# Altium integrated library TI_Logic_Specialty_Logic.IntLib: 2504 symbols (part 44 of 81)
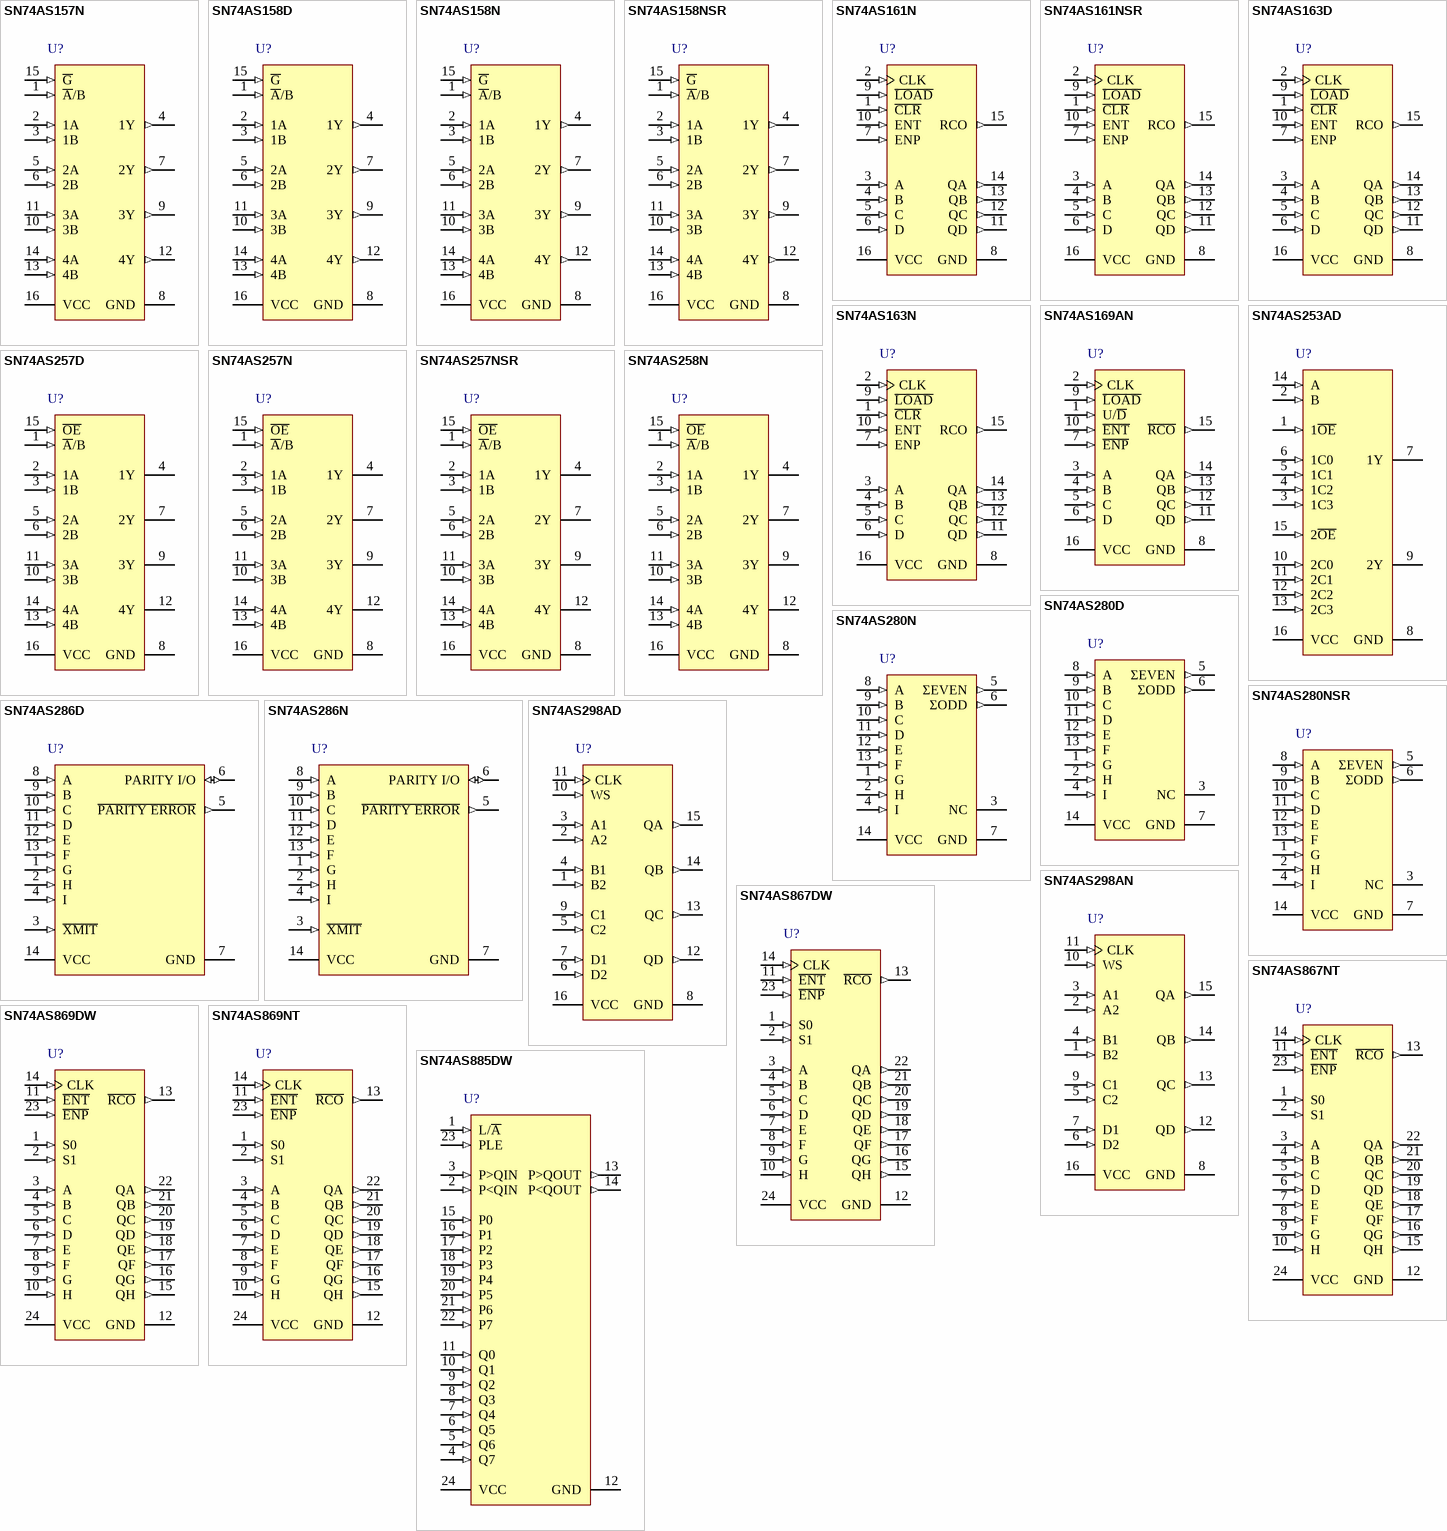
[diagram p147: symbols SN74AS157N to SN74AS885DW]

## SN74AS280N
designator U?
9-Bit Parity Generators/Checkers, N0014A, TUBE; Generic Part Number: SN74AS280; Manufacturer: Texas Instruments; PartNumber: SN74AS280N; VCC(Min)(V): 4.5; VCC(Max)(V): 5.5; Output Type: CMOS; Inputs: 9; ICC @ Nom Voltage(Max)(mA): 35; Input Type: TTL; Bits(#): 2; F @ Nom Voltage(Max)(Mhz): 125; Rating: Catalog; Technology Family: AS; Voltage(Nom)(V): 5; Schmitt Trigger: No; Output Drive (IOL/IOH)(Max)(mA): 20/-2; tpd @ Nom Voltage(Max)(ns): 12; DatasheetVersion: SDAS038C; PackageReference: N0014A; Supplier 1: Mouser; Supplier Part Number 1: 595-SN74AS280N; Supplier 2: Digi-Key; Supplier Part Number 2: 296-33808-5-ND; Function: Parity; Operating Temperature Range(C): 0 to 70; Type: Other; Code_JEDEC: MS-001; ComponentLink1Description: Manufacturer URL; ComponentLink1URL: http://www.ti.com/; ComponentLink2Description: Datasheet; ComponentLink2URL: http://www.ti.com/lit/ds/symlink/sn74as280.pdf; ComponentLink3Description: Package Specification; ComponentLink3URL: http://www.ti.com/lit/ml/mpdi002c/mpdi002c.pdf
footprint N0014A (DIP, 14-Leads, Body 19.7x6.6mm, Pitch 2.54mm)
pins: 1 G (in), 2 H (in), 3 NC, 4 I (in), 5 ΣEVEN (out), 6 ΣODD (out), 7 GND (power), 8 A (in), 9 B (in), 10 C (in), 11 D (in), 12 E (in), 13 F (in), 14 VCC (power)

## SN74AS280NSR
designator U?
9-Bit Parity Generators/Checkers, NS0014A, LARGE T&R; Generic Part Number: SN74AS280; Manufacturer: Texas Instruments; PartNumber: SN74AS280NSR; VCC(Min)(V): 4.5; VCC(Max)(V): 5.5; Output Type: CMOS; Inputs: 9; ICC @ Nom Voltage(Max)(mA): 35; Input Type: TTL; Bits(#): 2; F @ Nom Voltage(Max)(Mhz): 125; Rating: Catalog; Technology Family: AS; Voltage(Nom)(V): 5; Schmitt Trigger: No; Output Drive (IOL/IOH)(Max)(mA): 20/-2; tpd @ Nom Voltage(Max)(ns): 12; DatasheetVersion: SDAS038C; PackageReference: NS0014A; Supplier 1: Mouser; Supplier Part Number 1: 595-SN74AS280NSR; Supplier 2: Digi-Key; Supplier Part Number 2: 296-28708-2-ND; Supplier 3: Digi-Key; Supplier Part Number 3: 296-28708-1-ND; Supplier 4: Digi-Key; Supplier Part Number 4: 296-28708-6-ND; Function: Parity; Operating Temperature Range(C): 0 to 70; Type: Other; ComponentLink1Description: Manufacturer URL; ComponentLink1URL: http://www.ti.com/; ComponentLink2Description: Datasheet; ComponentLink2URL: http://www.ti.com/lit/ds/symlink/sn74as280.pdf; ComponentLink3Description: Package Specification; ComponentLink3URL: http://www.ti.com/lit/ml/msop002a/msop002a.pdf
footprint NS0014A_N (SOIC,14-Leads,Body 10.5x5.6mm,Pitch 1.27mm,IPC Medium Density)
footprint NS0014A_M (SOIC,14-Leads,Body 10.5x5.6mm,Pitch 1.27mm,IPC Low Density)
footprint NS0014A_L (SOIC,14-Leads,Body 10.5x5.6mm,Pitch 0.4mm,IPC High Density)
pins: 1 G (in), 2 H (in), 3 NC, 4 I (in), 5 ΣEVEN (out), 6 ΣODD (out), 7 GND (power), 8 A (in), 9 B (in), 10 C (in), 11 D (in), 12 E (in), 13 F (in), 14 VCC (power)

## SN74AS286D
designator U?
9-Bit Parity Generators/Checkers With Bus-Driver Parity I/O Ports, D0014A, TUBE; Generic Part Number: SN74AS286; Manufacturer: Texas Instruments; PartNumber: SN74AS286D; VCC(Min)(V): 4.5; VCC(Max)(V): 5.5; Output Type: CMOS; Inputs: 9; ICC @ Nom Voltage(Max)(mA): 50; Input Type: TTL; Bits(#): 1; F @ Nom Voltage(Max)(Mhz): 125; Rating: Catalog; Technology Family: AS; Voltage(Nom)(V): 5; Schmitt Trigger: No; Output Drive (IOL/IOH)(Max)(mA): 48/-15; tpd @ Nom Voltage(Max)(ns): 16.5; DatasheetVersion: SDAS050B; PackageReference: D0014A; Supplier 1: Mouser; Supplier Part Number 1: 595-SN74AS286D; Supplier 2: Digi-Key; Supplier Part Number 2: SN74AS286D-ND; Function: Parity; Operating Temperature Range(C): 0 to 70; Type: Other; Code_JEDEC: MS-012; ComponentLink1Description: Manufacturer URL; ComponentLink1URL: http://www.ti.com/; ComponentLink2Description: Datasheet; ComponentLink2URL: http://www.ti.com/lit/ds/symlink/sn74as286.pdf; ComponentLink3Description: Package Specification; ComponentLink3URL: http://www.ti.com/lit/ml/mpds177g/mpds177g.pdf
footprint D0014A_N (SOIC, 14-Leads, Body 8.75x4mm, Pitch 1.27mm, IPC Medium Density)
footprint D0014A_M (SOIC, 14-Leads, Body 8.75x4mm, Pitch 1.27mm, IPC Low Density)
footprint D0014A_L (SOIC, 14-Leads, Body 8.75x4mm, Pitch 1.27mm, IPC High Density)
pins: 1 G (in), 2 H (in), 3 ~{XMIT} (in), 4 I (in), 5 ~{PARITY ERROR} (out), 6 PARITY I/O (io), 7 GND (power), 8 A (in), 9 B (in), 10 C (in), 11 D (in), 12 E (in), 13 F (in), 14 VCC (power)

## SN74AS286N
designator U?
9-Bit Parity Generators/Checkers With Bus-Driver Parity I/O Ports, N0014A, TUBE; Generic Part Number: SN74AS286; Manufacturer: Texas Instruments; PartNumber: SN74AS286N; VCC(Min)(V): 4.5; VCC(Max)(V): 5.5; Output Type: CMOS; Inputs: 9; ICC @ Nom Voltage(Max)(mA): 50; Input Type: TTL; Bits(#): 1; F @ Nom Voltage(Max)(Mhz): 125; Rating: Catalog; Technology Family: AS; Voltage(Nom)(V): 5; Schmitt Trigger: No; Output Drive (IOL/IOH)(Max)(mA): 48/-15; tpd @ Nom Voltage(Max)(ns): 16.5; DatasheetVersion: SDAS050B; PackageReference: N0014A; Supplier 1: Mouser; Supplier Part Number 1: 595-SN74AS286N; Supplier 2: Digi-Key; Supplier Part Number 2: 296-6352-5-ND; Function: Parity; Operating Temperature Range(C): 0 to 70; Type: Other; Code_JEDEC: MS-001; ComponentLink1Description: Manufacturer URL; ComponentLink1URL: http://www.ti.com/; ComponentLink2Description: Datasheet; ComponentLink2URL: http://www.ti.com/lit/ds/symlink/sn74as286.pdf; ComponentLink3Description: Package Specification; ComponentLink3URL: http://www.ti.com/lit/ml/mpdi002c/mpdi002c.pdf
footprint N0014A (DIP, 14-Leads, Body 19.7x6.6mm, Pitch 2.54mm)
pins: 1 G (in), 2 H (in), 3 ~{XMIT} (in), 4 I (in), 5 ~{PARITY ERROR} (out), 6 PARITY I/O (io), 7 GND (power), 8 A (in), 9 B (in), 10 C (in), 11 D (in), 12 E (in), 13 F (in), 14 VCC (power)

## SN74AS298AD
designator U?
Quadruple 2-Input Multiplexers With Storage, D0016A, TUBE; Generic Part Number: SN74AS298A; Manufacturer: Texas Instruments; PartNumber: SN74AS298AD; VCC(Min)(V): 4.5; VCC(Max)(V): 5.5; Output Type: TTL; Function: Encoder/Multiplexer; ICC @ Nom Voltage(Max)(mA): 36; Bits(#): 2; F @ Nom Voltage(Max)(Mhz): 125; Configuration: 2：1; Channels(#): 4; Rating: Catalog; Technology Family: AS; Voltage(Nom)(V): 5; Schmitt Trigger: No; Output Drive (IOL/IOH)(Max)(mA): 20/-2; tpd @ Nom Voltage(Max)(ns): 11; DatasheetVersion: SDAS219B; PackageReference: D0016A; Supplier 1: Mouser; Supplier Part Number 1: 595-SN74AS298AD; Supplier 2: Digi-Key; Supplier Part Number 2: SN74AS298AD-ND; Input Type: TTL; Operating Temperature Range(C): 0 to 70; Type: Standard; Code_JEDEC: MS-012 variation AC; ComponentLink1Description: Manufacturer URL; ComponentLink1URL: http://www.ti.com/; ComponentLink2Description: Datasheet; ComponentLink2URL: http://www.ti.com/lit/ds/symlink/sn74as298a.pdf; ComponentLink3Description: Package Specification; ComponentLink3URL: http://www.ti.com/lit/ml/mpds178g/mpds178g.pdf
footprint D0016A_N (SOIC, 16-Leads, Body 10x4mm, Pitch 1.27mm, IPC Medium Density)
footprint D0016A_M (SOIC, 16-Leads, Body 10x4mm, Pitch 1.27mm, IPC Low Density)
footprint D0016A_L (SOIC, 16-Leads, Body 10x4mm, Pitch 1.27mm, IPC High Density)
pins: 1 B2 (in), 2 A2 (in), 3 A1 (in), 4 B1 (in), 5 C2 (in), 6 D2 (in), 7 D1 (in), 8 GND (power), 9 C1 (in), 10 WS (in), 11 CLK (in), 12 QD (out), 13 QC (out), 14 QB (out), 15 QA (out), 16 VCC (power)

## SN74AS298AN
designator U?
Quadruple 2-Input Multiplexers With Storage, N0016A, TUBE; Generic Part Number: SN74AS298A; Manufacturer: Texas Instruments; PartNumber: SN74AS298AN; VCC(Min)(V): 4.5; VCC(Max)(V): 5.5; Output Type: TTL; Function: Encoder/Multiplexer; ICC @ Nom Voltage(Max)(mA): 36; Bits(#): 2; F @ Nom Voltage(Max)(Mhz): 125; Configuration: 2：1; Channels(#): 4; Rating: Catalog; Technology Family: AS; Voltage(Nom)(V): 5; Schmitt Trigger: No; Output Drive (IOL/IOH)(Max)(mA): 20/-2; tpd @ Nom Voltage(Max)(ns): 11; DatasheetVersion: SDAS219B; PackageReference: N0016A; Supplier 1: Mouser; Supplier Part Number 1: 595-SN74AS298AN; Supplier 2: Digi-Key; Supplier Part Number 2: 296-33809-5-ND; Input Type: TTL; Operating Temperature Range(C): 0 to 70; Type: Standard; Code_JEDEC: MS-001; ComponentLink1Description: Manufacturer URL; ComponentLink1URL: http://www.ti.com/; ComponentLink2Description: Datasheet; ComponentLink2URL: http://www.ti.com/lit/ds/symlink/sn74as298a.pdf; ComponentLink3Description: Package Specification; ComponentLink3URL: http://www.ti.com/lit/ml/mpdi002c/mpdi002c.pdf
footprint N0016A (DIP, 16-Leads, Body 19.7x6.6mm, Pitch 2.54mm)
pins: 1 B2 (in), 2 A2 (in), 3 A1 (in), 4 B1 (in), 5 C2 (in), 6 D2 (in), 7 D1 (in), 8 GND (power), 9 C1 (in), 10 WS (in), 11 CLK (in), 12 QD (out), 13 QC (out), 14 QB (out), 15 QA (out), 16 VCC (power)

## SN74AS867DW
designator U?
Synchronous 8-Bit Up/Down Counters, DW0024A, TUBE; Generic Part Number: SN74AS867; Manufacturer: Texas Instruments; PartNumber: SN74AS867DW; VCC(Min)(V): 4.5; VCC(Max)(V): 5.5; Output Type: CMOS; Inputs: 1; ICC @ Nom Voltage(Max)(mA): 195; Input Type: TTL; Bits(#): 8; F @ Nom Voltage(Max)(Mhz): 125; Rating: Catalog; Technology Family: AS; Voltage(Nom)(V): 5; Schmitt Trigger: No; Output Drive (IOL/IOH)(Max)(mA): 20/-2; tpd @ Nom Voltage(Max)(ns): 22; DatasheetVersion: SDAS115C; PackageReference: DW0024A; Supplier 1: Mouser; Supplier Part Number 1: 595-SN74AS867DW; Supplier 2: Digi-Key; Supplier Part Number 2: 296-6379-5-ND; Function: Counter; Operating Temperature Range(C): 0 to 70; Type: Binary; Code_JEDEC: MS-013; ComponentLink1Description: Manufacturer URL; ComponentLink1URL: http://www.ti.com/; ComponentLink2Description: Datasheet; ComponentLink2URL: http://www.ti.com/lit/ds/symlink/sn74as867.pdf; ComponentLink3Description: Package Specification; ComponentLink3URL: http://www.ti.com/lit/ml/mpds174a/mpds174a.pdf
footprint DW0024A_N (SOIC, 24-Leads, Body 15.6x7.6mm, Pitch 1.27mm, IPC Medium Density)
footprint DW0024A_M (SOIC, 24-Leads, Body 15.6x7.6mm, Pitch 1.27mm, IPC Low Density)
footprint DW0024A_L (SOIC, 24-Leads, Body 15.6x7.6mm, Pitch 1.27mm, IPC High Density)
pins: 1 S0 (in), 2 S1 (in), 3 A (in), 4 B (in), 5 C (in), 6 D (in), 7 E (in), 8 F (in), 9 G (in), 10 H (in), 11 ~{ENT} (in), 12 GND (power), 13 ~{RCO} (out), 14 CLK (in), 15 QH (out), 16 QG (out), 17 QF (out), 18 QE (out), 19 QD (out), 20 QC (out), 21 QB (out), 22 QA (out), 23 ~{ENP} (in), 24 VCC (power)

## SN74AS867NT
designator U?
Synchronous 8-Bit Up/Down Counters, NT0024A, TUBE; Generic Part Number: SN74AS867; Manufacturer: Texas Instruments; PartNumber: SN74AS867NT; VCC(Min)(V): 4.5; VCC(Max)(V): 5.5; Output Type: CMOS; Inputs: 1; ICC @ Nom Voltage(Max)(mA): 195; Input Type: TTL; Bits(#): 8; F @ Nom Voltage(Max)(Mhz): 125; Rating: Catalog; Technology Family: AS; Voltage(Nom)(V): 5; Schmitt Trigger: No; Output Drive (IOL/IOH)(Max)(mA): 20/-2; tpd @ Nom Voltage(Max)(ns): 22; DatasheetVersion: SDAS115C; PackageReference: NT0024A; Supplier 1: Mouser; Supplier Part Number 1: 595-SN74AS867NT; Supplier 2: Digi-Key; Supplier Part Number 2: 296-6380-5-ND; Function: Counter; Operating Temperature Range(C): 0 to 70; Type: Binary; ComponentLink1Description: Manufacturer URL; ComponentLink1URL: http://www.ti.com/; ComponentLink2Description: Datasheet; ComponentLink2URL: http://www.ti.com/lit/ds/symlink/sn74as867.pdf; ComponentLink3Description: Package Specification; ComponentLink3URL: http://www.ti.com/lit/ml/mpdi004a/mpdi004a.pdf
footprint NT0024A (DIP, 24-Leads, Body 32.05x7.1mm, Pitch 2.54mm)
pins: 1 S0 (in), 2 S1 (in), 3 A (in), 4 B (in), 5 C (in), 6 D (in), 7 E (in), 8 F (in), 9 G (in), 10 H (in), 11 ~{ENT} (in), 12 GND (power), 13 ~{RCO} (out), 14 CLK (in), 15 QH (out), 16 QG (out), 17 QF (out), 18 QE (out), 19 QD (out), 20 QC (out), 21 QB (out), 22 QA (out), 23 ~{ENP} (in), 24 VCC (power)

## SN74AS869DW
designator U?
Synchronous 8-Bit Up/Down Counters, DW0024A, TUBE; Generic Part Number: SN74AS869; Manufacturer: Texas Instruments; PartNumber: SN74AS869DW; VCC(Min)(V): 4.5; VCC(Max)(V): 5.5; Output Type: CMOS; Inputs: 1; ICC @ Nom Voltage(Max)(mA): 195; Input Type: TTL; Bits(#): 8; F @ Nom Voltage(Max)(Mhz): 125; Rating: Catalog; Technology Family: AS; Voltage(Nom)(V): 5; Schmitt Trigger: No; Output Drive (IOL/IOH)(Max)(mA): 20/-2; tpd @ Nom Voltage(Max)(ns): 35; DatasheetVersion: SDAS115C; PackageReference: DW0024A; Supplier 1: Mouser; Supplier Part Number 1: 595-SN74AS869DW; Supplier 2: Digi-Key; Supplier Part Number 2: SN74AS869DW-ND; Function: Counter; Operating Temperature Range(C): 0 to 70; Type: Binary; Code_JEDEC: MS-013; ComponentLink1Description: Manufacturer URL; ComponentLink1URL: http://www.ti.com/; ComponentLink2Description: Datasheet; ComponentLink2URL: http://www.ti.com/lit/ds/symlink/sn74as869.pdf; ComponentLink3Description: Package Specification; ComponentLink3URL: http://www.ti.com/lit/ml/mpds174a/mpds174a.pdf
footprint DW0024A_N (SOIC, 24-Leads, Body 15.6x7.6mm, Pitch 1.27mm, IPC Medium Density)
footprint DW0024A_M (SOIC, 24-Leads, Body 15.6x7.6mm, Pitch 1.27mm, IPC Low Density)
footprint DW0024A_L (SOIC, 24-Leads, Body 15.6x7.6mm, Pitch 1.27mm, IPC High Density)
pins: 1 S0 (in), 2 S1 (in), 3 A (in), 4 B (in), 5 C (in), 6 D (in), 7 E (in), 8 F (in), 9 G (in), 10 H (in), 11 ~{ENT} (in), 12 GND (power), 13 ~{RCO} (out), 14 CLK (in), 15 QH (out), 16 QG (out), 17 QF (out), 18 QE (out), 19 QD (out), 20 QC (out), 21 QB (out), 22 QA (out), 23 ~{ENP} (in), 24 VCC (power)

## SN74AS869NT
designator U?
Synchronous 8-Bit Up/Down Counters, NT0024A, TUBE; Generic Part Number: SN74AS869; Manufacturer: Texas Instruments; PartNumber: SN74AS869NT; VCC(Min)(V): 4.5; VCC(Max)(V): 5.5; Output Type: CMOS; Inputs: 1; ICC @ Nom Voltage(Max)(mA): 195; Input Type: TTL; Bits(#): 8; F @ Nom Voltage(Max)(Mhz): 125; Rating: Catalog; Technology Family: AS; Voltage(Nom)(V): 5; Schmitt Trigger: No; Output Drive (IOL/IOH)(Max)(mA): 20/-2; tpd @ Nom Voltage(Max)(ns): 35; DatasheetVersion: SDAS115C; PackageReference: NT0024A; Supplier 1: Mouser; Supplier Part Number 1: 595-SN74AS869NT; Supplier 2: Digi-Key; Supplier Part Number 2: 296-33822-5-ND; Function: Counter; Operating Temperature Range(C): 0 to 70; Type: Binary; ComponentLink1Description: Manufacturer URL; ComponentLink1URL: http://www.ti.com/; ComponentLink2Description: Datasheet; ComponentLink2URL: http://www.ti.com/lit/ds/symlink/sn74as869.pdf; ComponentLink3Description: Package Specification; ComponentLink3URL: http://www.ti.com/lit/ml/mpdi004a/mpdi004a.pdf
footprint NT0024A (DIP, 24-Leads, Body 32.05x7.1mm, Pitch 2.54mm)
pins: 1 S0 (in), 2 S1 (in), 3 A (in), 4 B (in), 5 C (in), 6 D (in), 7 E (in), 8 F (in), 9 G (in), 10 H (in), 11 ~{ENT} (in), 12 GND (power), 13 ~{RCO} (out), 14 CLK (in), 15 QH (out), 16 QG (out), 17 QF (out), 18 QE (out), 19 QD (out), 20 QC (out), 21 QB (out), 22 QA (out), 23 ~{ENP} (in), 24 VCC (power)

## SN74AS885DW
designator U?
Octal Magnitude Comparators, DW0024A, TUBE; Generic Part Number: SN74AS885; Manufacturer: Texas Instruments; PartNumber: SN74AS885DW; VCC(Min)(V): 4.5; VCC(Max)(V): 5.5; Output Type: TTL; ICC @ Nom Voltage(Max)(mA): 210; Bits(#): 8; F @ Nom Voltage(Max)(Mhz): 35; Rating: Catalog; Technology Family: AS; Voltage(Nom)(V): 5; Schmitt Trigger: No; Output Drive (IOL/IOH)(Max)(mA): 20/-2; tpd @ Nom Voltage(Max)(ns): 17.5; DatasheetVersion: SDAS236A; PackageReference: DW0024A; Supplier 1: Mouser; Supplier Part Number 1: 595-SN74AS885DW; Supplier 2: Digi-Key; Supplier Part Number 2: 296-6382-5-ND; Input Type: TTL; Operating Temperature Range(C): 0 to 70; ComponentLink1Description: Manufacturer URL; ComponentLink1URL: http://www.ti.com/; ComponentLink2Description: Datasheet; ComponentLink2URL: http://www.ti.com/lit/ds/symlink/sn74as885.pdf
footprint DW0024A_N (SOIC, 24-Leads, Body 15.6x7.6mm, Pitch 1.27mm, IPC Medium Density)
footprint DW0024A_M (SOIC, 24-Leads, Body 15.6x7.6mm, Pitch 1.27mm, IPC Low Density)
footprint DW0024A_L (SOIC, 24-Leads, Body 15.6x7.6mm, Pitch 1.27mm, IPC High Density)
pins: 1 L/~{A} (in), 2 P<QIN (in), 3 P>QIN (in), 4 Q7 (in), 5 Q6 (in), 6 Q5 (in), 7 Q4 (in), 8 Q3 (in), 9 Q2 (in), 10 Q1 (in), 11 Q0 (in), 12 GND (power), 13 P>QOUT (out), 14 P<QOUT (out), 15 P0 (in), 16 P1 (in), 17 P2 (in), 18 P3 (in), 19 P4 (in), 20 P5 (in), 21 P6 (in), 22 P7 (in), 23 PLE (in), 24 VCC (power)

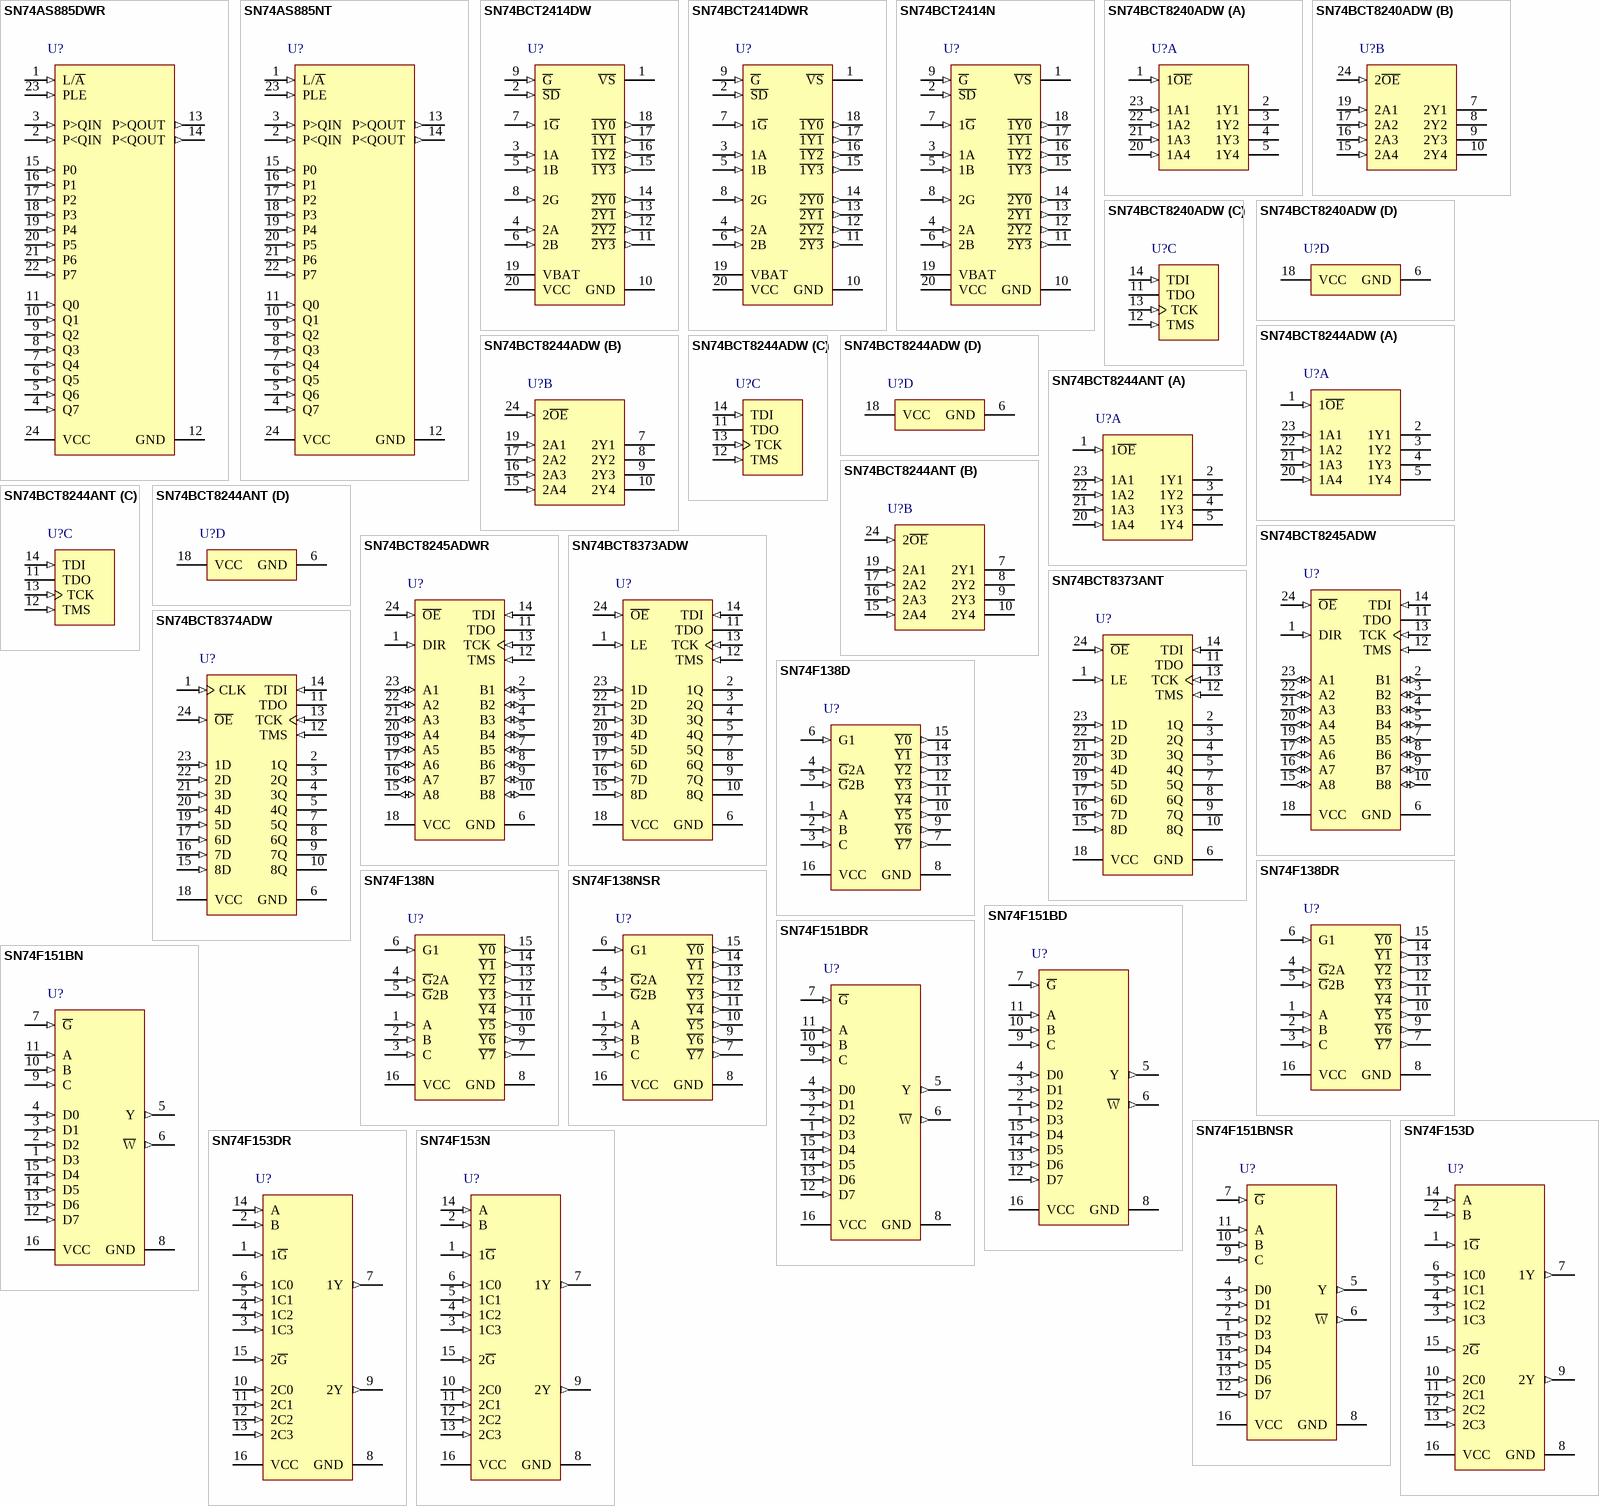
[diagram p57: symbols SN74AS885DWR to SN74F153N]

## SN74AS885DWR
designator U?
Octal Magnitude Comparators, DW0024A, LARGE T&R; Generic Part Number: SN74AS885; Manufacturer: Texas Instruments; PartNumber: SN74AS885DWR; VCC(Min)(V): 4.5; VCC(Max)(V): 5.5; Output Type: TTL; ICC @ Nom Voltage(Max)(mA): 210; Bits(#): 8; F @ Nom Voltage(Max)(Mhz): 35; Rating: Catalog; Technology Family: AS; Voltage(Nom)(V): 5; Schmitt Trigger: No; Output Drive (IOL/IOH)(Max)(mA): 20/-2; tpd @ Nom Voltage(Max)(ns): 17.5; DatasheetVersion: SDAS236A; PackageReference: DW0024A; Supplier 1: Mouser; Supplier Part Number 1: 595-SN74AS885DWR; Supplier 2: Digi-Key; Supplier Part Number 2: 296-6383-2-ND; Input Type: TTL; Operating Temperature Range(C): 0 to 70; ComponentLink1Description: Manufacturer URL; ComponentLink1URL: http://www.ti.com/; ComponentLink2Description: Datasheet; ComponentLink2URL: http://www.ti.com/lit/ds/symlink/sn74as885.pdf
footprint DW0024A_N (SOIC, 24-Leads, Body 15.6x7.6mm, Pitch 1.27mm, IPC Medium Density)
footprint DW0024A_M (SOIC, 24-Leads, Body 15.6x7.6mm, Pitch 1.27mm, IPC Low Density)
footprint DW0024A_L (SOIC, 24-Leads, Body 15.6x7.6mm, Pitch 1.27mm, IPC High Density)
pins: 1 L/~{A} (in), 2 P<QIN (in), 3 P>QIN (in), 4 Q7 (in), 5 Q6 (in), 6 Q5 (in), 7 Q4 (in), 8 Q3 (in), 9 Q2 (in), 10 Q1 (in), 11 Q0 (in), 12 GND (power), 13 P>QOUT (out), 14 P<QOUT (out), 15 P0 (in), 16 P1 (in), 17 P2 (in), 18 P3 (in), 19 P4 (in), 20 P5 (in), 21 P6 (in), 22 P7 (in), 23 PLE (in), 24 VCC (power)

## SN74AS885NT
designator U?
Octal Magnitude Comparators, NT0024A, TUBE; Generic Part Number: SN74AS885; Manufacturer: Texas Instruments; PartNumber: SN74AS885NT; VCC(Min)(V): 4.5; VCC(Max)(V): 5.5; Output Type: TTL; ICC @ Nom Voltage(Max)(mA): 210; Bits(#): 8; F @ Nom Voltage(Max)(Mhz): 35; Rating: Catalog; Technology Family: AS; Voltage(Nom)(V): 5; Schmitt Trigger: No; Output Drive (IOL/IOH)(Max)(mA): 20/-2; tpd @ Nom Voltage(Max)(ns): 17.5; DatasheetVersion: SDAS236A; PackageReference: NT0024A; Supplier 1: Mouser; Supplier Part Number 1: 595-SN74AS885NT; Supplier 2: Digi-Key; Supplier Part Number 2: 296-6384-5-ND; Input Type: TTL; Operating Temperature Range(C): 0 to 70; ComponentLink1Description: Manufacturer URL; ComponentLink1URL: http://www.ti.com/; ComponentLink2Description: Datasheet; ComponentLink2URL: http://www.ti.com/lit/ds/symlink/sn74as885.pdf
footprint NT0024A (DIP, 24-Leads, Body 32.05x7.1mm, Pitch 2.54mm)
pins: 1 L/~{A} (in), 2 P<QIN (in), 3 P>QIN (in), 4 Q7 (in), 5 Q6 (in), 6 Q5 (in), 7 Q4 (in), 8 Q3 (in), 9 Q2 (in), 10 Q1 (in), 11 Q0 (in), 12 GND (power), 13 P>QOUT (out), 14 P<QOUT (out), 15 P0 (in), 16 P1 (in), 17 P2 (in), 18 P3 (in), 19 P4 (in), 20 P5 (in), 21 P6 (in), 22 P7 (in), 23 PLE (in), 24 VCC (power)

## SN74BCT2414DW
designator U?
Dual 2-Line To 4-Line Memory Decoder With On-Chip Supply Voltage Monitor, DW0020A, TUBE; Generic Part Number: SN74BCT2414; Manufacturer: Texas Instruments; PartNumber: SN74BCT2414DW; VCC(Min)(V): 4.5; VCC(Max)(V): 5.5; Output Type: TTL; Function: Decoder/Demultiplexer; ICC @ Nom Voltage(Max)(mA): 3; Bits(#): 4; F @ Nom Voltage(Max)(Mhz): 70; Configuration: 2：4; Channels(#): 2; Rating: Catalog; Technology Family: BCT; Voltage(Nom)(V): 5; Schmitt Trigger: No; Output Drive (IOL/IOH)(Max)(mA): 20/-0.4; tpd @ Nom Voltage(Max)(ns): 12; DatasheetVersion: SCBS059B; PackageReference: DW0020A; Supplier 1: Mouser; Supplier Part Number 1: 595-SN74BCT2414DW; Supplier 2: Digi-Key; Supplier Part Number 2: 296-13176-5-ND; Input Type: TTL; Operating Temperature Range(C): 0 to 70; Type: Standard; Code_JEDEC: MS-013; ComponentLink1Description: Manufacturer URL; ComponentLink1URL: http://www.ti.com/; ComponentLink2Description: Datasheet; ComponentLink2URL: http://www.ti.com/lit/ds/symlink/sn74bct2414.pdf; ComponentLink3Description: Package Specification; ComponentLink3URL: http://www.ti.com/lit/ml/mpds173a/mpds173a.pdf
footprint DW0020A_N (SOIC, 20-Leads, Body 13x7.6mm, Pitch 1.27mm, IPC Medium Density)
footprint DW0020A_M (SOIC, 20-Leads, Body 13x7.6mm, Pitch 1.27mm, IPC Low Density)
footprint DW0020A_L (SOIC, 20-Leads, Body 13x7.6mm, Pitch 1.27mm, IPC High Density)
pins: 1 ~{VS} (oc), 2 ~{SD} (in), 3 1A (in), 4 2A (in), 5 1B (in), 6 2B (in), 7 1~{G} (in), 8 2G (in), 9 ~{G} (in), 10 GND (power), 11 ~{2Y3} (out), 12 ~{2Y2} (out), 13 ~{2Y1} (out), 14 ~{2Y0} (out), 15 ~{1Y3} (out), 16 ~{1Y2} (out), 17 ~{1Y1} (out), 18 ~{1Y0} (out), 19 VBAT (power), 20 VCC (power)

## SN74BCT2414DWR
designator U?
Dual 2-Line To 4-Line Memory Decoder With On-Chip Supply Voltage Monitor, DW0020A, LARGE T&R; Generic Part Number: SN74BCT2414; Manufacturer: Texas Instruments; PartNumber: SN74BCT2414DWR; VCC(Min)(V): 4.5; VCC(Max)(V): 5.5; Output Type: TTL; Function: Decoder/Demultiplexer; ICC @ Nom Voltage(Max)(mA): 3; Bits(#): 4; F @ Nom Voltage(Max)(Mhz): 70; Configuration: 2：4; Channels(#): 2; Rating: Catalog; Technology Family: BCT; Voltage(Nom)(V): 5; Schmitt Trigger: No; Output Drive (IOL/IOH)(Max)(mA): 20/-0.4; tpd @ Nom Voltage(Max)(ns): 12; DatasheetVersion: SCBS059B; PackageReference: DW0020A; Supplier 1: Mouser; Supplier Part Number 1: 595-SN74BCT2414DWR; Supplier 2: Digi-Key; Supplier Part Number 2: SN74BCT2414DWR-ND; Input Type: TTL; Operating Temperature Range(C): 0 to 70; Type: Standard; Code_JEDEC: MS-013; ComponentLink1Description: Manufacturer URL; ComponentLink1URL: http://www.ti.com/; ComponentLink2Description: Datasheet; ComponentLink2URL: http://www.ti.com/lit/ds/symlink/sn74bct2414.pdf; ComponentLink3Description: Package Specification; ComponentLink3URL: http://www.ti.com/lit/ml/mpds173a/mpds173a.pdf
footprint DW0020A_N (SOIC, 20-Leads, Body 13x7.6mm, Pitch 1.27mm, IPC Medium Density)
footprint DW0020A_M (SOIC, 20-Leads, Body 13x7.6mm, Pitch 1.27mm, IPC Low Density)
footprint DW0020A_L (SOIC, 20-Leads, Body 13x7.6mm, Pitch 1.27mm, IPC High Density)
pins: 1 ~{VS} (oc), 2 ~{SD} (in), 3 1A (in), 4 2A (in), 5 1B (in), 6 2B (in), 7 1~{G} (in), 8 2G (in), 9 ~{G} (in), 10 GND (power), 11 ~{2Y3} (out), 12 ~{2Y2} (out), 13 ~{2Y1} (out), 14 ~{2Y0} (out), 15 ~{1Y3} (out), 16 ~{1Y2} (out), 17 ~{1Y1} (out), 18 ~{1Y0} (out), 19 VBAT (power), 20 VCC (power)

## SN74BCT2414N
designator U?
Dual 2-Line To 4-Line Memory Decoder With On-Chip Supply Voltage Monitor, N0020A, TUBE; Generic Part Number: SN74BCT2414; Manufacturer: Texas Instruments; PartNumber: SN74BCT2414N; VCC(Min)(V): 4.5; VCC(Max)(V): 5.5; Output Type: TTL; Function: Decoder/Demultiplexer; ICC @ Nom Voltage(Max)(mA): 3; Bits(#): 4; F @ Nom Voltage(Max)(Mhz): 70; Configuration: 2：4; Channels(#): 2; Rating: Catalog; Technology Family: BCT; Voltage(Nom)(V): 5; Schmitt Trigger: No; Output Drive (IOL/IOH)(Max)(mA): 20/-0.4; tpd @ Nom Voltage(Max)(ns): 12; DatasheetVersion: SCBS059B; PackageReference: N0020A; Supplier 1: Mouser; Supplier Part Number 1: 595-SN74BCT2414N; Supplier 2: Digi-Key; Supplier Part Number 2: SN74BCT2414N-ND; Input Type: TTL; Operating Temperature Range(C): 0 to 70; Type: Standard; Code_JEDEC: MS-001; ComponentLink1Description: Manufacturer URL; ComponentLink1URL: http://www.ti.com/; ComponentLink2Description: Datasheet; ComponentLink2URL: http://www.ti.com/lit/ds/symlink/sn74bct2414.pdf; ComponentLink3Description: Package Specification; ComponentLink3URL: http://www.ti.com/lit/ml/mpdi002c/mpdi002c.pdf
footprint N0020A (DIP, 20-Leads, Body 26.9x6.6mm, Pitch 2.54mm)
pins: 1 ~{VS} (oc), 2 ~{SD} (in), 3 1A (in), 4 2A (in), 5 1B (in), 6 2B (in), 7 1~{G} (in), 8 2G (in), 9 ~{G} (in), 10 GND (power), 11 ~{2Y3} (out), 12 ~{2Y2} (out), 13 ~{2Y1} (out), 14 ~{2Y0} (out), 15 ~{1Y3} (out), 16 ~{1Y2} (out), 17 ~{1Y1} (out), 18 ~{1Y0} (out), 19 VBAT (power), 20 VCC (power)

## SN74BCT8240ADW
designator U?
IEEE Std 1149.1 (JTAG) Boundary-Scan Test Device With Octal Inverting Buffers, DW0024A, TUBE; Generic Part Number: SN74BCT8240A; Manufacturer: Texas Instruments; PartNumber: SN74BCT8240ADW; VCC(Min)(V): 4.5; VCC(Max)(V): 5.5; Output Type: TTL; ICC @ Nom Voltage(Max)(mA): 52; Bits(#): 8; F @ Nom Voltage(Max)(Mhz): 70; Rating: Catalog; Technology Family: BCT; Voltage(Nom)(V): 5; Output Drive (IOL/IOH)(Max)(mA): 64/-15; Output Logic: Inverted; tpd @ Nom Voltage(Max)(ns): 9; DatasheetVersion: SCBS067E; PackageReference: DW0024A; Supplier 1: Mouser; Supplier Part Number 1: 595-SN74BCT8240ADW; Supplier 2: Digi-Key; Supplier Part Number 2: 296-33846-5-ND; Input Type: TTL; Operating Temperature Range(C): 0 to 70; ComponentLink1Description: Manufacturer URL; ComponentLink1URL: http://www.ti.com/; ComponentLink2Description: Datasheet; ComponentLink2URL: http://www.ti.com/lit/ds/symlink/sn74bct8240a.pdf
footprint DW0024A_N (SOIC, 24-Leads, Body 15.6x7.6mm, Pitch 1.27mm, IPC Medium Density)
footprint DW0024A_M (SOIC, 24-Leads, Body 15.6x7.6mm, Pitch 1.27mm, IPC Low Density)
footprint DW0024A_L (SOIC, 24-Leads, Body 15.6x7.6mm, Pitch 1.27mm, IPC High Density)
part A pins: 1 1~{OE} (in) "Normal-function output-enable inputs. See function table for normal-mode logic. Internal pullups force these inputs high if left unconnected.", 2 1Y1 (hiz) "Normal-function data outputs. See function table for normal-mode logic.", 3 1Y2 (hiz) "Normal-function data outputs. See function table for normal-mode logic.", 4 1Y3 (hiz) "Normal-function data outputs. See function table for normal-mode logic.", 5 1Y4 (hiz) "Normal-function data outputs. See function table for normal-mode logic.", 20 1A4 (in) "Normal-function data inputs. See function table for normal-mode logic. Internal pullups force these inputs high if left unconnected.", 21 1A3 (in) "Normal-function data inputs. See function table for normal-mode logic. Internal pullups force these inputs high if left unconnected.", 22 1A2 (in) "Normal-function data inputs. See function table for normal-mode logic. Internal pullups force these inputs high if left unconnected.", 23 1A1 (in) "Normal-function data inputs. See function table for normal-mode logic. Internal pullups force these inputs high if left unconnected."
part B pins: 7 2Y1 (hiz) "Normal-function data outputs. See function table for normal-mode logic.", 8 2Y2 (hiz) "Normal-function data outputs. See function table for normal-mode logic.", 9 2Y3 (hiz) "Normal-function data outputs. See function table for normal-mode logic.", 10 2Y4 (hiz) "Normal-function data outputs. See function table for normal-mode logic.", 15 2A4 (in) "Normal-function data inputs. See function table for normal-mode logic. Internal pullups force these inputs high if left unconnected.", 16 2A3 (in) "Normal-function data inputs. See function table for normal-mode logic. Internal pullups force these inputs high if left unconnected.", 17 2A2 (in) "Normal-function data inputs. See function table for normal-mode logic. Internal pullups force these inputs high if left unconnected.", 19 2A1 (in) "Normal-function data inputs. See function table for normal-mode logic. Internal pullups force these inputs high if left unconnected.", 24 2~{OE} (in) "Normal-function output-enable inputs. See function table for normal-mode logic. Internal pullups force these inputs high if left unconnected."
part C pins: 11 TDO (hiz) "Test data output. One of four terminals required by IEEE Standard 1149.1-1990. TDO is the serial output for shifting data through the instruction register or selected data register. An internal pullup forces TDO to a high (See Datasheet)", 12 TMS (in) "Test mode select. One of four terminals required by IEEE Standard 1149.1-1990. TMS directs the device through its TAP controller states. An internal pullup forces TMS to a high level if left unconnected. TMS also provides (See Datasheet)", 13 TCK (in) "Test clock. One of four terminals required by IEEE Standard 1149.1-1990. Test operations of the device are synchronous to TCK. Data is captured on the rising edge of TCK and outputs change on the falling edge of TCK. An (See Datasheet)", 14 TDI (in) "Test data input. One of four terminals required by IEEE Standard 1149.1-1990. TDI is the serial input for shifting data through the instruction register or selected data register. An internal pullup forces TDI to a high (See Datasheet)"
part D pins: 6 GND (power) "Ground", 18 VCC (power) "Supply voltage"

## SN74BCT8244ADW
designator U?
IEEE Std 1149.1 (JTAG) Boundary-Scan Test Device With Octal Buffers, DW0024A, TUBE; Generic Part Number: SN74BCT8244A; Manufacturer: Texas Instruments; PartNumber: SN74BCT8244ADW; VCC(Min)(V): 4.5; VCC(Max)(V): 5.5; Output Type: TTL; ICC @ Nom Voltage(Max)(mA): 52; Bits(#): 8; F @ Nom Voltage(Max)(Mhz): 70; Rating: Catalog; Technology Family: BCT; Voltage(Nom)(V): 5; Output Drive (IOL/IOH)(Max)(mA): 64/-15; Output Logic: True; tpd @ Nom Voltage(Max)(ns): 8.5; DatasheetVersion: SCBS042E; PackageReference: DW0024A; Supplier 1: Mouser; Supplier Part Number 1: 595-SN74BCT8244ADW; Supplier 2: Digi-Key; Supplier Part Number 2: SN74BCT8244ADW-ND; Input Type: TTL; Operating Temperature Range(C): 0 to 70; ComponentLink1Description: Manufacturer URL; ComponentLink1URL: http://www.ti.com/; ComponentLink2Description: Datasheet; ComponentLink2URL: http://www.ti.com/lit/ds/symlink/sn74bct8244a.pdf
footprint DW0024A_N (SOIC, 24-Leads, Body 15.6x7.6mm, Pitch 1.27mm, IPC Medium Density)
footprint DW0024A_M (SOIC, 24-Leads, Body 15.6x7.6mm, Pitch 1.27mm, IPC Low Density)
footprint DW0024A_L (SOIC, 24-Leads, Body 15.6x7.6mm, Pitch 1.27mm, IPC High Density)
part A pins: 1 1~{OE} (in) "Normal-function output-enable inputs. See function table for normal-mode logic. Internal pullups force these inputs high if left unconnected.", 2 1Y1 (hiz) "Normal-function data outputs. See function table for normal-mode logic.", 3 1Y2 (hiz) "Normal-function data outputs. See function table for normal-mode logic.", 4 1Y3 (hiz) "Normal-function data outputs. See function table for normal-mode logic.", 5 1Y4 (hiz) "Normal-function data outputs. See function table for normal-mode logic.", 20 1A4 (in) "Normal-function data inputs. See function table for normal-mode logic. Internal pullups force these inputs high if left unconnected.", 21 1A3 (in) "Normal-function data inputs. See function table for normal-mode logic. Internal pullups force these inputs high if left unconnected.", 22 1A2 (in) "Normal-function data inputs. See function table for normal-mode logic. Internal pullups force these inputs high if left unconnected.", 23 1A1 (in) "Normal-function data inputs. See function table for normal-mode logic. Internal pullups force these inputs high if left unconnected."
part B pins: 7 2Y1 (hiz) "Normal-function data outputs. See function table for normal-mode logic.", 8 2Y2 (hiz) "Normal-function data outputs. See function table for normal-mode logic.", 9 2Y3 (hiz) "Normal-function data outputs. See function table for normal-mode logic.", 10 2Y4 (hiz) "Normal-function data outputs. See function table for normal-mode logic.", 15 2A4 (in) "Normal-function data inputs. See function table for normal-mode logic. Internal pullups force these inputs high if left unconnected.", 16 2A3 (in) "Normal-function data inputs. See function table for normal-mode logic. Internal pullups force these inputs high if left unconnected.", 17 2A2 (in) "Normal-function data inputs. See function table for normal-mode logic. Internal pullups force these inputs high if left unconnected.", 19 2A1 (in) "Normal-function data inputs. See function table for normal-mode logic. Internal pullups force these inputs high if left unconnected.", 24 2~{OE} (in) "Normal-function output-enable inputs. See function table for normal-mode logic. Internal pullups force these inputs high if left unconnected."
part C pins: 11 TDO (hiz) "Test data output. One of four terminals required by IEEE Standard 1149.1-1990. TDO is the serial output for shifting data through the instruction register or selected data register. An internal pullup forces TDO to a high (See Datasheet)", 12 TMS (in) "Test mode select. One of four terminals required by IEEE Standard 1149.1-1990. TMS directs the device through its TAP controller states. An internal pullup forces TMS to a high level if left unconnected. TMS also provides (See Datasheet)", 13 TCK (in) "Test clock. One of four terminals required by IEEE Standard 1149.1-1990. Test operations of the device are synchronous to TCK. Data is captured on the rising edge of TCK and outputs change on the falling edge of TCK. An (See Datasheet)", 14 TDI (in) "Test data input. One of four terminals required by IEEE Standard 1149.1-1990. TDI is the serial input for shifting data through the instruction register or selected data register. An internal pullup forces TDI to a high (See Datasheet)"
part D pins: 6 GND (power) "Ground", 18 VCC (power) "Supply voltage"

## SN74BCT8244ANT
designator U?
IEEE Std 1149.1 (JTAG) Boundary-Scan Test Device With Octal Buffers, NT0024A, TUBE; Generic Part Number: SN74BCT8244A; Manufacturer: Texas Instruments; PartNumber: SN74BCT8244ANT; VCC(Min)(V): 4.5; VCC(Max)(V): 5.5; Output Type: TTL; ICC @ Nom Voltage(Max)(mA): 52; Bits(#): 8; F @ Nom Voltage(Max)(Mhz): 70; Rating: Catalog; Technology Family: BCT; Voltage(Nom)(V): 5; Output Drive (IOL/IOH)(Max)(mA): 64/-15; Output Logic: True; tpd @ Nom Voltage(Max)(ns): 8.5; DatasheetVersion: SCBS042E; PackageReference: NT0024A; Supplier 1: Mouser; Supplier Part Number 1: 595-SN74BCT8244ANT; Supplier 2: Digi-Key; Supplier Part Number 2: 296-33847-5-ND; Input Type: TTL; Operating Temperature Range(C): 0 to 70; ComponentLink1Description: Manufacturer URL; ComponentLink1URL: http://www.ti.com/; ComponentLink2Description: Datasheet; ComponentLink2URL: http://www.ti.com/lit/ds/symlink/sn74bct8244a.pdf
footprint NT0024A (DIP, 24-Leads, Body 32.05x7.1mm, Pitch 2.54mm)
part A pins: 1 1~{OE} (in) "Normal-function output-enable inputs. See function table for normal-mode logic. Internal pullups force these inputs high if left unconnected.", 2 1Y1 (hiz) "Normal-function data outputs. See function table for normal-mode logic.", 3 1Y2 (hiz) "Normal-function data outputs. See function table for normal-mode logic.", 4 1Y3 (hiz) "Normal-function data outputs. See function table for normal-mode logic.", 5 1Y4 (hiz) "Normal-function data outputs. See function table for normal-mode logic.", 20 1A4 (in) "Normal-function data inputs. See function table for normal-mode logic. Internal pullups force these inputs high if left unconnected.", 21 1A3 (in) "Normal-function data inputs. See function table for normal-mode logic. Internal pullups force these inputs high if left unconnected.", 22 1A2 (in) "Normal-function data inputs. See function table for normal-mode logic. Internal pullups force these inputs high if left unconnected.", 23 1A1 (in) "Normal-function data inputs. See function table for normal-mode logic. Internal pullups force these inputs high if left unconnected."
part B pins: 7 2Y1 (hiz) "Normal-function data outputs. See function table for normal-mode logic.", 8 2Y2 (hiz) "Normal-function data outputs. See function table for normal-mode logic.", 9 2Y3 (hiz) "Normal-function data outputs. See function table for normal-mode logic.", 10 2Y4 (hiz) "Normal-function data outputs. See function table for normal-mode logic.", 15 2A4 (in) "Normal-function data inputs. See function table for normal-mode logic. Internal pullups force these inputs high if left unconnected.", 16 2A3 (in) "Normal-function data inputs. See function table for normal-mode logic. Internal pullups force these inputs high if left unconnected.", 17 2A2 (in) "Normal-function data inputs. See function table for normal-mode logic. Internal pullups force these inputs high if left unconnected.", 19 2A1 (in) "Normal-function data inputs. See function table for normal-mode logic. Internal pullups force these inputs high if left unconnected.", 24 2~{OE} (in) "Normal-function output-enable inputs. See function table for normal-mode logic. Internal pullups force these inputs high if left unconnected."
part C pins: 11 TDO (hiz) "Test data output. One of four terminals required by IEEE Standard 1149.1-1990. TDO is the serial output for shifting data through the instruction register or selected data register. An internal pullup forces TDO to a high (See Datasheet)", 12 TMS (in) "Test mode select. One of four terminals required by IEEE Standard 1149.1-1990. TMS directs the device through its TAP controller states. An internal pullup forces TMS to a high level if left unconnected. TMS also provides (See Datasheet)", 13 TCK (in) "Test clock. One of four terminals required by IEEE Standard 1149.1-1990. Test operations of the device are synchronous to TCK. Data is captured on the rising edge of TCK and outputs change on the falling edge of TCK. An (See Datasheet)", 14 TDI (in) "Test data input. One of four terminals required by IEEE Standard 1149.1-1990. TDI is the serial input for shifting data through the instruction register or selected data register. An internal pullup forces TDI to a high (See Datasheet)"
part D pins: 6 GND (power) "Ground", 18 VCC (power) "Supply voltage"

## SN74BCT8245ADW
designator U?
IEEE Std 1149.1 (JTAG) Boundary-Scan Test Device With Octal Bus Transceivers, DW0024A, TUBE; Generic Part Number: SN74BCT8245A; Manufacturer: Texas Instruments; PartNumber: SN74BCT8245ADW; VCC(Min)(V): 4.5; VCC(Max)(V): 5.5; Output Type: TTL; ICC @ Nom Voltage(Max)(mA): 52; Bits(#): 8; F @ Nom Voltage(Max)(Mhz): 70; Rating: Catalog; Technology Family: BCT; Voltage(Nom)(V): 5; Output Drive (IOL/IOH)(Max)(mA): 64/-15; Output Logic: True; tpd @ Nom Voltage(Max)(ns): 10; DatasheetVersion: SCBS043E; PackageReference: DW0024A; Supplier 1: Mouser; Supplier Part Number 1: 595-SN74BCT8245ADW; Supplier 2: Digi-Key; Supplier Part Number 2: SN74BCT8245ADW-ND; Input Type: TTL; Operating Temperature Range(C): 0 to 70; ComponentLink1Description: Manufacturer URL; ComponentLink1URL: http://www.ti.com/; ComponentLink2Description: Datasheet; ComponentLink2URL: http://www.ti.com/lit/ds/symlink/sn74bct8245a.pdf
footprint DW0024A_N (SOIC, 24-Leads, Body 15.6x7.6mm, Pitch 1.27mm, IPC Medium Density)
footprint DW0024A_M (SOIC, 24-Leads, Body 15.6x7.6mm, Pitch 1.27mm, IPC Low Density)
footprint DW0024A_L (SOIC, 24-Leads, Body 15.6x7.6mm, Pitch 1.27mm, IPC High Density)
pins: 1 DIR (in) "Normal-function direction-control input. See function table for normal-mode logic.", 2 B1 (io) "Normal-function B-bus I/O ports. See function table for normal-mode logic.", 3 B2 (io) "Normal-function B-bus I/O ports. See function table for normal-mode logic.", 4 B3 (io) "Normal-function B-bus I/O ports. See function table for normal-mode logic.", 5 B4 (io) "Normal-function B-bus I/O ports. See function table for normal-mode logic.", 6 GND (power) "Ground", 7 B5 (io) "Normal-function B-bus I/O ports. See function table for normal-mode logic.", 8 B6 (io) "Normal-function B-bus I/O ports. See function table for normal-mode logic.", 9 B7 (io) "Normal-function B-bus I/O ports. See function table for normal-mode logic.", 10 B8 (io) "Normal-function B-bus I/O ports. See function table for normal-mode logic.", 11 TDO (hiz) "Test data output. One of four terminals required by IEEE Standard 1149.1-1990. TDO is the serial output for shifting data through the instruction register or selected data register.", 12 TMS (in) "Test mode select. One of four terminals required by IEEE Standard 1149.1-1990. TMS input directs the device through its TAP controller states. An internal pullup forces TMS to a high level if left unconnected.", 13 TCK (in) "Test clock. One of four terminals required by IEEE Standard 1149.1-1990. Test operations of the device are synchronous to TCK. Data is captured on the rising edge of TCK and outputs change on the falling edge of TCK.", 14 TDI (in) "Test data input. One of four terminals required by IEEE Standard 1149.1-1990. TDI is the serial input for shifting data through the instruction register or selected data register. An internal pullup forces TDI to a high (See Datasheet)", 15 A8 (io) "Normal-function A-bus I/O ports. See function table for normal-mode logic.", 16 A7 (io) "Normal-function A-bus I/O ports. See function table for normal-mode logic.", 17 A6 (io) "Normal-function A-bus I/O ports. See function table for normal-mode logic.", 18 VCC (power) "Supply voltage", 19 A5 (io) "Normal-function A-bus I/O ports. See function table for normal-mode logic.", 20 A4 (io) "Normal-function A-bus I/O ports. See function table for normal-mode logic.", 21 A3 (io) "Normal-function A-bus I/O ports. See function table for normal-mode logic.", 22 A2 (io) "Normal-function A-bus I/O ports. See function table for normal-mode logic.", 23 A1 (io) "Normal-function A-bus I/O ports. See function table for normal-mode logic.", 24 ~{OE} (in) "Normal-function output-enable input. See function table for normal-mode logic."

## SN74BCT8245ADWR
designator U?
IEEE Std 1149.1 (JTAG) Boundary-Scan Test Device With Octal Bus Transceivers, DW0024A, LARGE T&R; Generic Part Number: SN74BCT8245A; Manufacturer: Texas Instruments; PartNumber: SN74BCT8245ADWR; VCC(Min)(V): 4.5; VCC(Max)(V): 5.5; Output Type: TTL; ICC @ Nom Voltage(Max)(mA): 52; Bits(#): 8; F @ Nom Voltage(Max)(Mhz): 70; Rating: Catalog; Technology Family: BCT; Voltage(Nom)(V): 5; Output Drive (IOL/IOH)(Max)(mA): 64/-15; Output Logic: True; tpd @ Nom Voltage(Max)(ns): 10; DatasheetVersion: SCBS043E; PackageReference: DW0024A; Supplier 1: Mouser; Supplier Part Number 1: 595-SN74BCT8245ADWR; Supplier 2: Digi-Key; Supplier Part Number 2: SN74BCT8245ADWR-ND; Input Type: TTL; Operating Temperature Range(C): 0 to 70; ComponentLink1Description: Manufacturer URL; ComponentLink1URL: http://www.ti.com/; ComponentLink2Description: Datasheet; ComponentLink2URL: http://www.ti.com/lit/ds/symlink/sn74bct8245a.pdf
footprint DW0024A_N (SOIC, 24-Leads, Body 15.6x7.6mm, Pitch 1.27mm, IPC Medium Density)
footprint DW0024A_M (SOIC, 24-Leads, Body 15.6x7.6mm, Pitch 1.27mm, IPC Low Density)
footprint DW0024A_L (SOIC, 24-Leads, Body 15.6x7.6mm, Pitch 1.27mm, IPC High Density)
pins: 1 DIR (in) "Normal-function direction-control input. See function table for normal-mode logic.", 2 B1 (io) "Normal-function B-bus I/O ports. See function table for normal-mode logic.", 3 B2 (io) "Normal-function B-bus I/O ports. See function table for normal-mode logic.", 4 B3 (io) "Normal-function B-bus I/O ports. See function table for normal-mode logic.", 5 B4 (io) "Normal-function B-bus I/O ports. See function table for normal-mode logic.", 6 GND (power) "Ground", 7 B5 (io) "Normal-function B-bus I/O ports. See function table for normal-mode logic.", 8 B6 (io) "Normal-function B-bus I/O ports. See function table for normal-mode logic.", 9 B7 (io) "Normal-function B-bus I/O ports. See function table for normal-mode logic.", 10 B8 (io) "Normal-function B-bus I/O ports. See function table for normal-mode logic.", 11 TDO (hiz) "Test data output. One of four terminals required by IEEE Standard 1149.1-1990. TDO is the serial output for shifting data through the instruction register or selected data register.", 12 TMS (in) "Test mode select. One of four terminals required by IEEE Standard 1149.1-1990. TMS input directs the device through its TAP controller states. An internal pullup forces TMS to a high level if left unconnected.", 13 TCK (in) "Test clock. One of four terminals required by IEEE Standard 1149.1-1990. Test operations of the device are synchronous to TCK. Data is captured on the rising edge of TCK and outputs change on the falling edge of TCK.", 14 TDI (in) "Test data input. One of four terminals required by IEEE Standard 1149.1-1990. TDI is the serial input for shifting data through the instruction register or selected data register. An internal pullup forces TDI to a high (See Datasheet)", 15 A8 (io) "Normal-function A-bus I/O ports. See function table for normal-mode logic.", 16 A7 (io) "Normal-function A-bus I/O ports. See function table for normal-mode logic.", 17 A6 (io) "Normal-function A-bus I/O ports. See function table for normal-mode logic.", 18 VCC (power) "Supply voltage", 19 A5 (io) "Normal-function A-bus I/O ports. See function table for normal-mode logic.", 20 A4 (io) "Normal-function A-bus I/O ports. See function table for normal-mode logic.", 21 A3 (io) "Normal-function A-bus I/O ports. See function table for normal-mode logic.", 22 A2 (io) "Normal-function A-bus I/O ports. See function table for normal-mode logic.", 23 A1 (io) "Normal-function A-bus I/O ports. See function table for normal-mode logic.", 24 ~{OE} (in) "Normal-function output-enable input. See function table for normal-mode logic."

## SN74BCT8373ADW
designator U?
IEEE Std 1149.1 (JTAG) Boundary-Scan Test Device With Octal D-Type Latches, DW0024A, TUBE; Generic Part Number: SN74BCT8373A; Manufacturer: Texas Instruments; PartNumber: SN74BCT8373ADW; VCC(Min)(V): 4.5; VCC(Max)(V): 5.5; Output Type: TTL; ICC @ Nom Voltage(Max)(mA): 52; Bits(#): 8; F @ Nom Voltage(Max)(Mhz): 70; Rating: Catalog; Technology Family: BCT; Voltage(Nom)(V): 5; Output Drive (IOL/IOH)(Max)(mA): 64/-15; Output Logic: True; tpd @ Nom Voltage(Max)(ns): 9.5; DatasheetVersion: SCBS044F; PackageReference: DW0024A; Supplier 1: Mouser; Supplier Part Number 1: 595-SN74BCT8373ADW; Supplier 2: Digi-Key; Supplier Part Number 2: SN74BCT8373ADW-ND; Input Type: TTL; Operating Temperature Range(C): 0 to 70; ComponentLink1Description: Manufacturer URL; ComponentLink1URL: http://www.ti.com/; ComponentLink2Description: Datasheet; ComponentLink2URL: http://www.ti.com/lit/ds/symlink/sn74bct8373a.pdf
footprint DW0024A_N (SOIC, 24-Leads, Body 15.6x7.6mm, Pitch 1.27mm, IPC Medium Density)
footprint DW0024A_M (SOIC, 24-Leads, Body 15.6x7.6mm, Pitch 1.27mm, IPC Low Density)
footprint DW0024A_L (SOIC, 24-Leads, Body 15.6x7.6mm, Pitch 1.27mm, IPC High Density)
pins: 1 LE (in) "Normal-function latch-enable input. See function table for normal-mode logic. An internal pullup forces LE to a high level if left unconnected.", 2 1Q (hiz) "Normal-function data outputs. See function table for normal-mode logic", 3 2Q (hiz) "Normal-function data outputs. See function table for normal-mode logic", 4 3Q (hiz) "Normal-function data outputs. See function table for normal-mode logic", 5 4Q (hiz) "Normal-function data outputs. See function table for normal-mode logic", 6 GND (power) "Ground", 7 5Q (hiz) "Normal-function data outputs. See function table for normal-mode logic", 8 6Q (hiz) "Normal-function data outputs. See function table for normal-mode logic", 9 7Q (hiz) "Normal-function data outputs. See function table for normal-mode logic", 10 8Q (hiz) "Normal-function data outputs. See function table for normal-mode logic", 11 TDO (hiz) "Test data output. One of four terminals required by IEEE Standard 1149.1-1990. TDO is the serial output for shifting data through the instruction register or selected data register. An internal pullup forces TDO to a high (See Datasheet)", 12 TMS (in) "Test mode select. One of four terminals required by IEEE Standard 1149.1-1990. TMS directs the device through its TAP controller states. An internal pullup forces TMS to a high level if left unconnected. The TMS pin also (See Datasheet)", 13 TCK (in) "Test clock. One of four terminals required by IEEE Standard 1149.1-1990. Test operations of the device are synchronous to TCK. Data is captured on the rising edge of TCK and outputs change on the falling edge of TCK. An (See Datasheet)", 14 TDI (in) "Test data input. One of four terminals required by IEEE Standard 1149.1-1990. TDI is the serial input for shifting data through the instruction register or selected data register. An internal pullup forces TDI to a high (See Datasheet)", 15 8D (in) "Normal-function data inputs. See function table for normal-mode logic. Internal pullups force these inputs to a high level if left unconnected.", 16 7D (in) "Normal-function data inputs. See function table for normal-mode logic. Internal pullups force these inputs to a high level if left unconnected.", 17 6D (in) "Normal-function data inputs. See function table for normal-mode logic. Internal pullups force these inputs to a high level if left unconnected.", 18 VCC (power) "Supply voltage", 19 5D (in) "Normal-function data inputs. See function table for normal-mode logic. Internal pullups force these inputs to a high level if left unconnected.", 20 4D (in) "Normal-function data inputs. See function table for normal-mode logic. Internal pullups force these inputs to a high level if left unconnected.", 21 3D (in) "Normal-function data inputs. See function table for normal-mode logic. Internal pullups force these inputs to a high level if left unconnected.", 22 2D (in) "Normal-function data inputs. See function table for normal-mode logic. Internal pullups force these inputs to a high level if left unconnected.", 23 1D (in) "Normal-function data inputs. See function table for normal-mode logic. Internal pullups force these inputs to a high level if left unconnected.", 24 ~{OE} (in) "Normal-function output-enable input. See function table for normal-mode logic. An internal pullup forces O\E\ to a high level if left unconnected."